# EAGLE library part SDA004-7 (library Diodes_Inc_By_element14_Batch_1)
DATA BUS TRANSIENT SUPPRESSOR
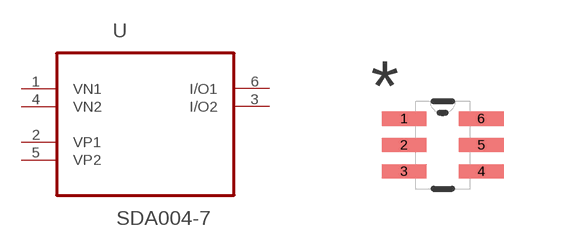
[diagram p47: symbol with the pads of SOT65P210X100-6N; footprint SOT65P210X100-6N]

Designator prefix U

## SDA004-7 (MPN: SDA004-7; OC_FARNELL: 1858624; OC_NEWARK: 23T8436; PACKAGE: TSOT-23-6; SUPPLIER: DIODES INC.)  [SOT65P210X100-6N]
1  VN1  in
2  VP1  in
3  I/O2
4  VN2  in
5  VP2  in
6  I/O1

## Footprint SOT65P210X100-6N (pad centres in mm)
smd 1.118 x 0.356: 1 -0.965,0.66; 2 -0.965,0; 3 -0.965,-0.66; 4 0.965,-0.66; 5 0.965,0; 6 0.965,0.66